# Altium footprint library Connectors.PcbLib: 10 footprints
Each footprint in its own frame and in the unit in brackets; x right, y up, seen from the top. Pads: shape width x height; smd on the part's side, far side on the other; paste and mask are expansions set on the pad; w line width, h text height; cw(c..) or ccw(c..) is an arc to the next point about the centre after c.
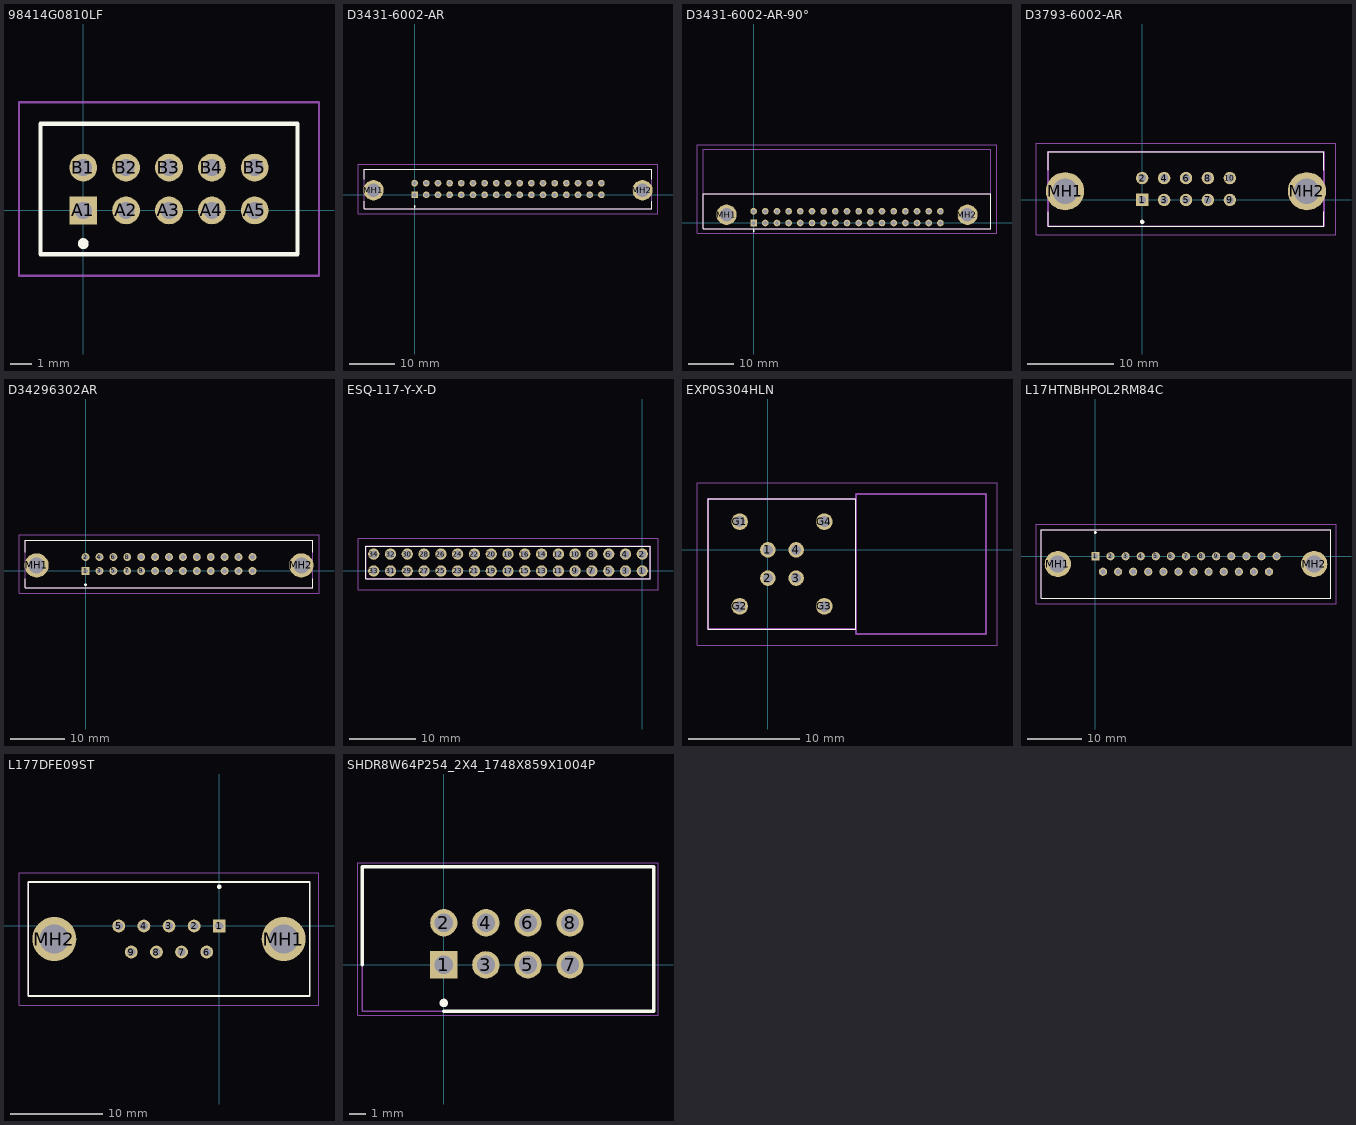
[diagram p0: the footprints below, top view; thin cyan lines are the x and y axes]

## 98414G0810LF [mm]
pads (10):
  rect 1.3x1.3 hole 0.8: A1(0,0)
  round 1.3 hole 0.8: A2(2,0) A3(4,0) A4(6,0) A5(8,0) B1(0,2) B2(2,2) B3(4,2) B4(6,2) B5(8,2)
Top Overlay:
  circle w0.254: c0,-1.55 r0.127
  lines w0.2: -2,-2.05 10,-2.05 10,4.05 -2,4.05 -2,-2.05
Mechanical 13:
  lines w0.1: -2,-2.05 10,-2.05 10,4.05 -2,4.05 -2,-2.05
Mechanical 15:
  lines w0.1: -3,-3.05 11,-3.05 11,5.05 -3,5.05 -3,-3.05
3D body "98414-G08-10LF.stp": height 6.3, standoff -5, extent -2,-2.05 10,4.05

## D3431-6002-AR [mm]
pads (36):
  rect 1.446x1.446 hole 0.89: 1(0,0)
  round 1.446 hole 0.89: 2(0,2.54) 3(2.54,0) 4(2.54,2.54) 5(5.08,0) 6(5.08,2.54) 7(7.62,0) 8(7.62,2.54) 9(10.16,0) 10(10.16,2.54) 11(12.7,0) 12(12.7,2.54) 13(15.24,0) 14(15.24,2.54) 15(17.78,0) 16(17.78,2.54) 17(20.32,0) 18(20.32,2.54) 19(22.86,0) 20(22.86,2.54) 21(25.4,0) 22(25.4,2.54) 23(27.94,0) 24(27.94,2.54) 25(30.48,0) 26(30.48,2.54) 27(33.02,0) 28(33.02,2.54) 29(35.56,0) 30(35.56,2.54) 31(38.1,0) 32(38.1,2.54) 33(40.64,0) 34(40.64,2.54)
  round 4.425 hole 2.95: MH1(-8.941,1.016) MH2(49.581,1.016)
Top Overlay:
  circle w0.254: c0,-2.548 r0.127
  lines w0.1: -10.922,-1.397 -10.922,-3.048 51.562,-3.048 51.562,-1.397 ; -10.922,3.429 -10.922,5.588 51.562,5.588 51.562,3.429
Top Assembly:
  lines w0.2: -10.922,-3.048 51.562,-3.048 51.562,5.588 -10.922,5.588 -10.922,-3.048
Top Courtyard:
  lines w0.1: -12.319,-4.064 -12.319,-3.048 -12.319,5.588 -12.319,6.604 -10.922,6.604 51.562,6.604 52.959,6.604 52.959,5.588 52.959,-3.048 52.959,-4.064 51.562,-4.064 -10.922,-4.064 -12.319,-4.064
Top Component Center:
  lines w0.15: -0.254,0 0.254,0 ; 0,-0.254 0,0.254

## D3431-6002-AR-90° [mm]
pads (36):
  rect 1.446x1.446 hole 0.89: 1(0,0)
  round 1.446 hole 0.89: 2(0,2.54) 3(2.54,0) 4(2.54,2.54) 5(5.08,0) 6(5.08,2.54) 7(7.62,0) 8(7.62,2.54) 9(10.16,0) 10(10.16,2.54) 11(12.7,0) 12(12.7,2.54) 13(15.24,0) 14(15.24,2.54) 15(17.78,0) 16(17.78,2.54) 17(20.32,0) 18(20.32,2.54) 19(22.86,0) 20(22.86,2.54) 21(25.4,0) 22(25.4,2.54) 23(27.94,0) 24(27.94,2.54) 25(30.48,0) 26(30.48,2.54) 27(33.02,0) 28(33.02,2.54) 29(35.56,0) 30(35.56,2.54) 31(38.1,0) 32(38.1,2.54) 33(40.64,0) 34(40.64,2.54)
  round 4.425 hole 2.95: MH1(-5.893,1.803) MH2(46.533,1.803)
Top Overlay:
  circle w0.254: c0,-1.745 r0.127
  lines w0.1: -10.922,-1.245 -10.922,6.375 51.562,6.375 51.562,-1.245 -10.922,-1.245
Top Courtyard:
  lines w0.1: -12.319,-2.261 52.959,-2.261 52.959,17.043 -12.319,17.043 -12.319,-2.261
Mechanical 13:
  lines w0.2: -10.922,6.375 51.562,6.375 ; -10.922,6.375 -10.922,-1.245 51.562,-1.245 51.562,6.375 ; -10.922,6.375 -10.922,16.027 51.562,16.027 51.562,6.375

## D3793-6002-AR [mm] "Connector"
pads (12):
  rect 1.446x1.446 hole 0.89: 1(0,0)
  round 1.446 hole 0.89: 2(0,2.54) 3(2.54,0) 4(2.54,2.54) 5(5.08,0) 6(5.08,2.54) 7(7.62,0) 8(7.62,2.54) 9(10.16,0) 10(10.16,2.54)
  round 4.425 hole 2.95: MH1(-8.941,1.016) MH2(19.101,1.016)
Top Overlay:
  circle w0.254: c0,-2.548 r0.127
  lines w0.1: -10.922,-1.397 -10.922,-3.048 21.082,-3.048 21.082,-1.397 ; -10.922,3.429 -10.922,5.588 21.082,5.588 21.082,3.429
Top Assembly:
  lines w0.2: -10.922,-3.048 -10.922,5.588 21.082,5.588 21.082,-3.048 -10.922,-3.048
Top Courtyard:
  lines w0.1: -12.319,-3.048 -12.319,5.588 ; -12.319,-4.064 -12.319,6.604 -10.922,6.604 21.082,6.604 22.479,6.604 22.479,5.588 22.479,-3.048 22.479,-4.064 21.082,-4.064 -10.922,-4.064 -12.319,-4.064
Top Component Center:
  lines w0.1: -0.254,0 0.254,0 ; 0,-0.254 0,0.254
3D body "3793-6003.stp": height 17.27, standoff -3.94, extent -10.927,-3.061 21.077,5.575

## D34296302AR [mm]
pads (28):
  rect 1.446x1.446 hole 0.89: 1(0,0)
  round 1.446 hole 0.89: 2(0,2.54) 3(2.54,0) 4(2.54,2.54) 5(5.08,0) 6(5.08,2.54) 7(7.62,0) 8(7.62,2.54) 9(10.16,0) 10(10.16,2.54) 11(12.7,0) 12(12.7,2.54) 13(15.24,0) 14(15.24,2.54) 15(17.78,0) 16(17.78,2.54) 17(20.32,0) 18(20.32,2.54) 19(22.86,0) 20(22.86,2.54) 21(25.4,0) 22(25.4,2.54) 23(27.94,0) 24(27.94,2.54) 25(30.48,0) 26(30.48,2.54)
  round 4.425 hole 2.95: MH1(-8.941,1.016) MH2(39.421,1.016)
Top Overlay:
  circle w0.254: c0,-2.53 r0.127
  lines w0.1: -10.985,-1.397 -10.985,-3.03 41.465,-3.03 41.465,-1.397 ; -10.985,3.429 -10.985,5.57 41.465,5.57 41.465,3.429
Mechanical 13:
  lines w0.2: -10.985,-3.03 41.465,-3.03 41.465,5.57 -10.985,5.57 -10.985,-3.03
Mechanical 15:
  lines w0.1: -12.152,-4.03 42.633,-4.03 42.633,6.57 -12.152,6.57 -12.152,-4.03
3D body "3429-6003.stp": height 17.27, standoff -3.94, extent -10.962,-3.068 41.362,5.568

## ESQ-117-Y-X-D [mm]
pads (34):
  round 1.7 hole 1.15: 1(0,0) 2(0,2.54) 3(-2.54,0) 4(-2.54,2.54) 5(-5.08,0) 6(-5.08,2.54) 7(-7.62,0) 8(-7.62,2.54) 9(-10.16,0) 10(-10.16,2.54) 11(-12.7,0) 12(-12.7,2.54) 13(-15.24,0) 14(-15.24,2.54) 15(-17.78,0) 16(-17.78,2.54) 17(-20.32,0) 18(-20.32,2.54) 19(-22.86,0) 20(-22.86,2.54) 21(-25.4,0) 22(-25.4,2.54) 23(-27.94,0) 24(-27.94,2.54) 25(-30.48,0) 26(-30.48,2.54) 27(-33.02,0) 28(-33.02,2.54) 29(-35.56,0) 30(-35.56,2.54) 31(-38.1,0) 32(-38.1,2.54) 33(-40.64,0) 34(-40.64,2.54)
Top Overlay:
  lines w0.1: -41.82,-1.205 -41.82,3.745 1.18,3.745 1.18,-1.205 -41.82,-1.205
Mechanical 13:
  lines w0.2: -41.82,-1.205 -41.82,3.745 1.18,3.745 1.18,-1.205 -41.82,-1.205
Mechanical 15:
  lines w0.05: -43.02,-2.85 -43.02,4.945 2.38,4.945 2.38,-2.85 -43.02,-2.85
3D body "esq-117-33-t-d.stp": height 1.81, standoff -16.61, extent -42.144,-1.25 1.544,3.83

## EXP0S304HLN [mm]
pads (8):
  round 1.4 hole 0.9: 1(0,0) 2(0,-2.54) 3(2.54,-2.54) 4(2.54,0)
  round 1.5 hole 1: G1(-2.54,2.54) G2(-2.54,-5.08) G3(5.08,-5.08) G4(5.08,2.54)
Top Overlay:
  lines w0.1: -5.38,-7.12 -5.38,4.58 7.92,4.58 7.92,-7.12 -5.38,-7.12
Mechanical 13:
  lines w0.2: 7.92,-7.12 7.92,-7.57 19.62,-7.57 19.62,5.03 7.92,5.03 7.92,4.58 ; 7.92,-7.12 -5.38,-7.12 -5.38,4.58 7.92,4.58 ; 7.92,-7.12 7.92,4.58
Mechanical 15:
  lines w0.1: -6.38,-8.57 -6.38,6.03 20.62,6.03 20.62,-8.57 -6.38,-8.57
3D body "EXP.0S.304.HLN.stp": height 13.78, standoff -2.34, extent -5.38,-7.191 19.62,4.651

## L17HTNBHPOL2RM84C [mm]
pads (27):
  rect 1.5x1.5 hole 1: 1(0,0)
  round 1.5 hole 1: 2(2.77,0) 3(5.54,0) 4(8.31,0) 5(11.08,0) 6(13.85,0) 7(16.62,0) 8(19.39,0) 9(22.16,0) 10(24.93,0) 11(27.7,0) 12(30.47,0) 13(33.24,0) 14(1.385,-2.84) 15(4.155,-2.84) 16(6.925,-2.84) 17(9.695,-2.84) 18(12.465,-2.84) 19(15.235,-2.84) 20(18.005,-2.84) 21(20.775,-2.84) 22(23.545,-2.84) 23(26.315,-2.84) 24(29.085,-2.84) 25(31.855,-2.84)
  round 4.8 hole 3.2: MH1(-6.9,-1.42) MH2(40.14,-1.42)
Top Overlay:
  circle w0.254: c0,4.355 r0.127
  lines w0.2: -9.905,-7.695 -9.905,4.855 43.145,4.855 43.145,-7.695 -9.905,-7.695
Mechanical 13:
  lines w0.1: -9.905,-7.695 -9.905,4.855 43.145,4.855 43.145,-7.695 -9.905,-7.695
Mechanical 15:
  lines w0.1: -10.905,-8.695 -10.905,5.855 44.145,5.855 44.145,-8.695 -10.905,-8.695
3D body "L17HTNBHPOL2RM84C.stp": height 12.6, standoff -5, extent -9.905,-7.695 43.145,4.855

## L177DFE09ST [mm]
pads (11):
  rect 1.4x1.4 hole 0.9: 1(0,0)
  round 1.4 hole 0.9: 2(-2.74,0) 3(-5.48,0) 4(-8.22,0) 5(-10.96,0) 6(-1.37,-2.84) 7(-4.11,-2.84) 8(-6.85,-2.84) 9(-9.59,-2.84)
  round 4.8 hole 3.2: MH1(7.02,-1.42) MH2(-17.98,-1.42)
Top Overlay:
  circle w0.254: c0,4.28 r0.127
  lines w0.2: -20.83,-7.62 9.87,-7.62 9.87,4.78 -20.83,4.78 -20.83,-7.62
Mechanical 13:
  lines w0.1: -20.83,-7.62 9.87,-7.62 9.87,4.78 -20.83,4.78 -20.83,-7.62
Mechanical 15:
  lines w0.1: -21.83,-8.62 10.87,-8.62 10.87,5.78 -21.83,5.78 -21.83,-8.62
3D body "L177DFE09ST.stp": height 12.3, standoff -5, extent -20.83,-7.62 9.87,4.78

## SHDR8W64P254_2X4_1748X859X1004P [mm]
pads (8):
  rect 1.65x1.65 hole 1.1: 1(0,0)
  round 1.65 hole 1.1: 2(0,2.54) 3(2.54,0) 4(2.54,2.54) 5(5.08,0) 6(5.08,2.54) 7(7.62,0) 8(7.62,2.54)
Top Overlay:
  circle w0.254: c0,-2.3 r0.127
  lines w0.2: -4.93,0 -4.93,5.92 12.68,5.92 12.68,-2.8 0,-2.8
Mechanical 13:
  lines w0.1: -4.93,-2.8 12.68,-2.8 12.68,5.92 -4.93,5.92 -4.93,-2.8
Mechanical 15:
  lines w0.05: -5.18,-3.05 12.93,-3.05 12.93,6.17 -5.18,6.17 -5.18,-3.05
3D body "N2508-6002-RB.stp": height 10.04, standoff -3.12, extent -4.93,-3.025 12.55,5.565